# Altium footprint library Switches.PcbLib: 6 footprints
Each footprint in its own frame and in the unit in brackets; x right, y up, seen from the top. Pads: shape width x height; smd on the part's side, far side on the other; paste and mask are expansions set on the pad; w line width, h text height; cw(c..) or ccw(c..) is an arc to the next point about the centre after c.
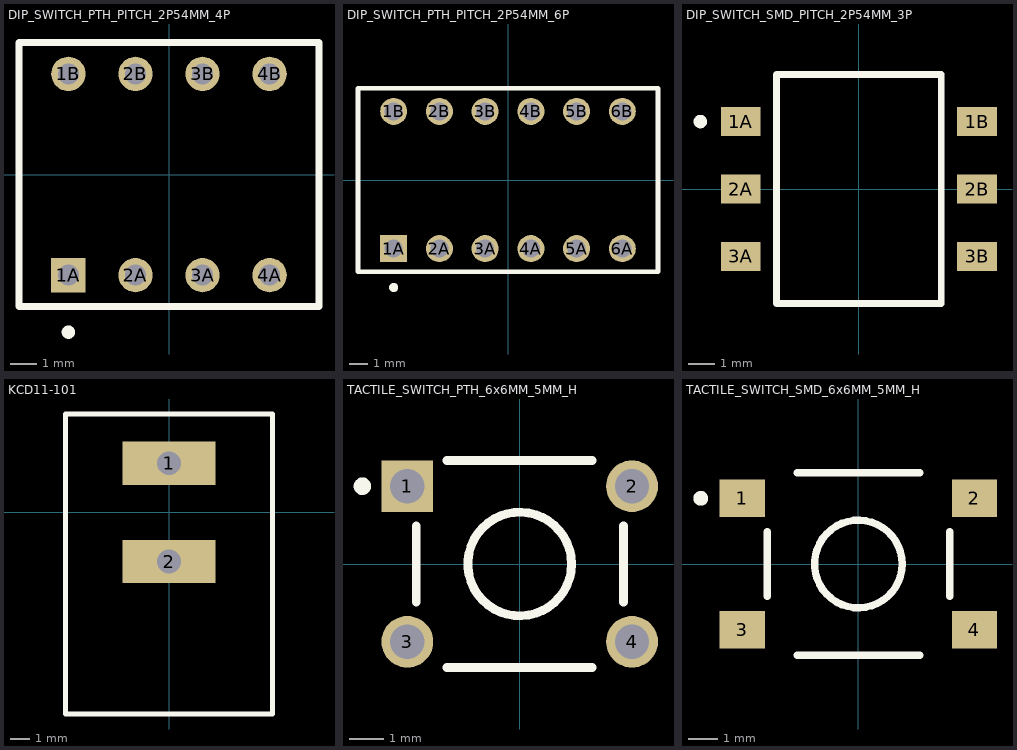
[diagram p0: the footprints below, top view; thin cyan lines are the x and y axes]

## DIP_SWITCH_PTH_PITCH_2P54MM_4P [mm]
height 6.3
pads (8):
  rect 1.3x1.3 hole 0.8: 1A(-3.81,-3.81)
  round 1.3 hole 0.8: 1B(-3.81,3.81) 2A(-1.27,-3.81) 2B(-1.27,3.81) 3A(1.27,-3.81) 3B(1.27,3.81) 4A(3.81,-3.81) 4B(3.81,3.81)
Top Overlay:
  circle w0.254: c-3.81,-5.969 r0.127
  lines w0.254: -5.68,-5 5.68,-5 5.68,5 -5.68,5 -5.68,-5
3D body "418117270904.stp": height 6.9, standoff -3.65, extent -5.58,-4.95 5.58,4.95

## DIP_SWITCH_PTH_PITCH_2P54MM_6P [mm]
height 7
pads (12):
  rect 1.5x1.5 hole 1: 1A(-6.35,-3.81)
  round 1.5 hole 1: 1B(-6.35,3.81) 2A(-3.81,-3.81) 2B(-3.81,3.81) 3A(-1.27,-3.81) 3B(-1.27,3.81) 4A(1.27,-3.81) 4B(1.27,3.81) 5A(3.81,-3.81) 5B(3.81,3.81) 6A(6.35,-3.81) 6B(6.35,3.81)
Top Overlay:
  circle w0.254: c-6.35,-5.969 r0.127
  lines w0.254: -8.33,-5.1 -8.33,5.1 8.33,5.1 8.33,-5.1 -8.33,-5.1
3D body "CUI_DEVICES_DS01C-254-L-06BE.step": height 6.68, standoff -3.68, extent -8.225,-4.95 8.435,4.95

## DIP_SWITCH_SMD_PITCH_2P54MM_3P [mm]
height 4.86
pads (6):
  rect 1.5x1.1 smd: 1A(-4.45,2.54) 1B(4.45,2.54) 2A(-4.45,0) 2B(4.45,0) 3A(-4.45,-2.54) 3B(4.45,-2.54)
Top Overlay:
  circle w0.254: c-5.969,2.54 r0.127
  lines w0.254: -3.1,-4.31 -3.1,4.31 3.1,4.31 3.1,-4.31 -3.1,-4.31
3D body "step_temp.STEP": height 3.99, standoff -0.01, extent -4.95,-4.31 4.95,4.31

## KCD11-101 [mm]
pads (2):
  rect 4.75x2.2 hole 1.2 square: 1(0,2.5) 2(0,-2.5)
Top Overlay:
  lines w0.254: -5.25,-10.25 5.25,-10.25 5.25,5 -5.25,5 -5.25,-10.25
3D body "User Library-KCD11.STEP": height 14.51, standoff -4.5, extent -5.25,-10.131 5.25,4.931

## TACTILE_SWITCH_PTH_6x6MM_5MM_H [mm]
pads (4):
  rect 1.498x1.498 / inner round 1.498 / far side rect 1.498x1.498 hole 0.99: 1(-3.25,2.25)
  round 1.498 hole 0.99: 2(3.25,2.25) 3(-3.25,-2.25) 4(3.25,-2.25)
Top Overlay:
  circle w0.254: c-4.55,2.25 r0.127
  circle w0.254: c0,0 r1.5
  lines w0.254: -2.995,-1.1 -2.995,1.1 ; -2.1,-2.995 2.1,-2.995 ; -2.1,2.995 2.1,2.995 ; 3,-1.1 3,1.1
3D body "TS02-66-50-BK-160-SCR-D.STEP": height 5.1, standoff -1.55, extent -3.6,-3 3.6,3

## TACTILE_SWITCH_SMD_6x6MM_5MM_H [mm]
pads (4):
  rect 1.549x1.295 smd paste+0: 1(-3.975,2.25) 2(3.975,2.25) 3(-3.975,-2.25) 4(3.975,-2.25)
Top Overlay:
  circle w0.254: c-5.4,2.25 r0.127
  circle w0.254: c0,0 r1.5
  lines w0.254: -3.124,-1.1 -3.124,1.1 ; -2.1,-3.124 2.1,-3.124 ; -2.1,3.124 2.1,3.124 ; 3.124,-1.1 3.124,1.1
3D body "TS6-SMT_H-5.0.step": height 5.1, standoff 0.1, extent -4,-3 4,3